# EAGLE library part 8-PIN_FEMALE_HEADER (library myLib-01-Headers)
8pin FEMALE HEADER
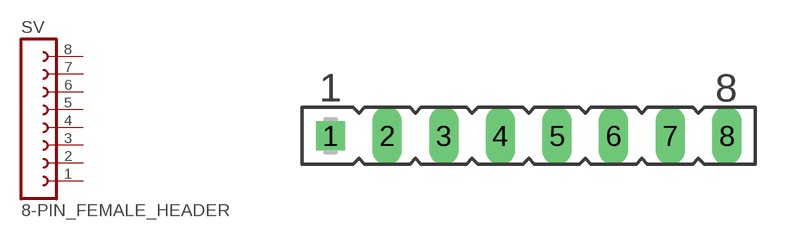
[diagram p8: symbol with the pads of 8-PIN_FEMALE_HEADER; footprint 8-PIN_FEMALE_HEADER]

Designator prefix SV

## 8-PIN_FEMALE_HEADER (OC_FARNELL: unknown; OC_NEWARK: unknown)  [8-PIN_FEMALE_HEADER]
1  1  pas
2  2  pas
3  3  pas
4  4  pas
5  5  pas
6  6  pas
7  7  pas
8  8  pas

## Footprint 8-PIN_FEMALE_HEADER (pad centres in mm)
FEMALE HEADER
drill 0.813 square: 1 0,0
drill 0.813 long: 2 2.54,0; 3 5.08,0; 4 7.62,0; 5 10.16,0; 6 12.7,0; 7 15.24,0; 8 17.78,0